# Altium integrated library Linear Technology Operational Amplifiers (LT2000-LT6000).IntLib: 1710 symbols (part 14 of 75)
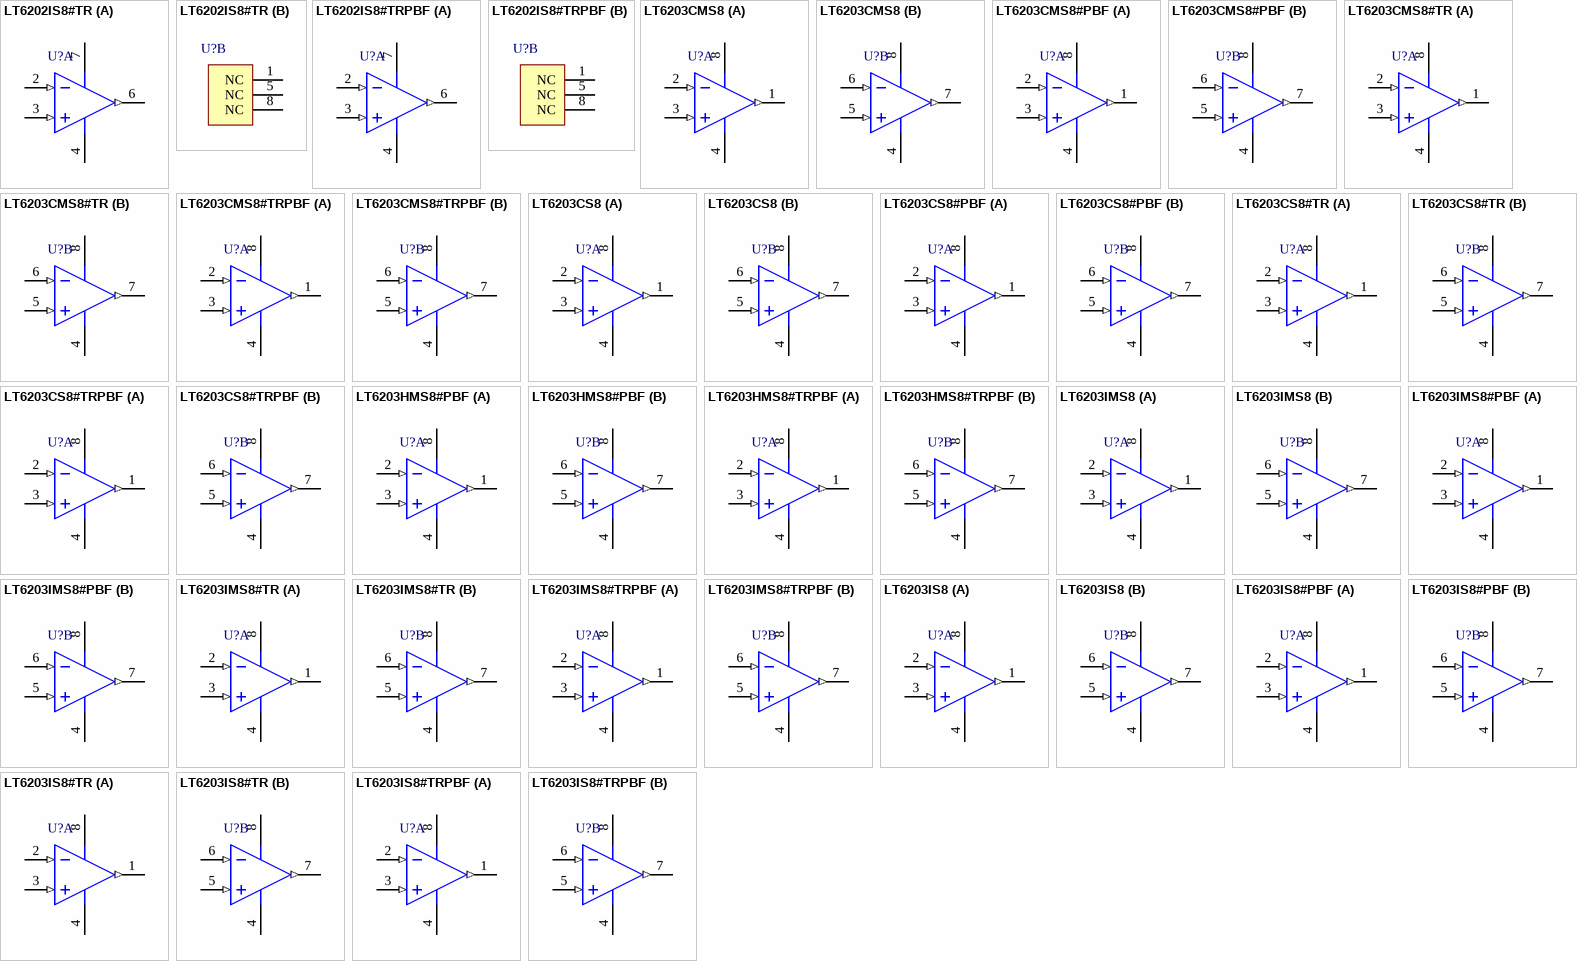
[diagram p93: symbols LT6202IS8#TR to LT6203IS8#TRPBF]

## LT6203IMS8#TRPBF
designator U?
Dual Channel, Low Noise, High Speed Operational Amplifier, RRIO, 100 MHz Typical GBW, 25 V/us Typical SR, 2.5 to 12.6 V, 8-Pin SOP (MS8-8), Industrial, Pb-Free, Reel; Linear Technology Part Number: LT6203; Manufacturer: Linear Technology; PartNumber: LT6203IMS8#TRPBF; Channels (#): 2; GBW (MHz) Typical: 100; Is (mA) Typical: 2.8; SR (V/us) Typical: 25; Vos (mV) Guaranteed: 0.5; Vos (mV) Typical: 0.1; Vs Max (V): 12.6; Vs Min (V): 2.5; DatasheetVersion: Rev. D; PackageVersion: Rev G; PackageReference: LT-MS8-8; PackageDescription: 8-Lead Plastic Small Outline, Body 3.9 x 4.9 mm, Pitch 1.27 mm; Supplier 1: Digi-Key; Supplier Part Number 1: LT6203IMS8#TRPBF-ND; Supplier 2: Newark; Supplier Part Number 2: 57M9235; Packing: Reel; RoHS: Pb-Free; Type: VFB; Mounting Technology: Surface Mount; ComponentLink1Description: Manufacturer URL; ComponentLink1URL: http://www.linear.com/; ComponentLink2Description: Datasheet; ComponentLink2URL: http://cds.linear.com/docs/en/datasheet/620234fd.pdf; ComponentLink3Description: Package Specification; ComponentLink3URL: http://cds.linear.com/docs/en/packaging/05081610_G_SO8.pdf
footprint LT-MS8-8_N (SOP, 8-Leads, Body 3x3mm, Pitch 0.65mm, IPC Medium Density)
footprint LT-MS8-8_L (SOP, 8-Leads, Body 3x3mm, Pitch 0.65mm, IPC High Density)
footprint LT-MS8-8_M (SOP, 8-Leads, Body 3x3mm, Pitch 0.65mm, IPC Low Density)
pins on every part: 4 V- (power), 8 V+ (power)
part A pins: 1 OUT A (out), 2 -IN A (in), 3 +IN A (in)
part B pins: 5 +IN B (in), 6 -IN B (in), 7 OUT B (out)

## LT6203IS8
designator U?
Dual Channel, Low Noise, High Speed Operational Amplifier, RRIO, 100 MHz Typical GBW, 25 V/us Typical SR, 2.5 to 12.6 V, 8-Pin SOIC (S8-8), Industrial; Linear Technology Part Number: LT6203; Manufacturer: Linear Technology; PartNumber: LT6203IS8; Channels (#): 2; GBW (MHz) Typical: 100; Is (mA) Typical: 2.8; SR (V/us) Typical: 25; Vos (mV) Guaranteed: 0.5; Vos (mV) Typical: 0.1; Vs Max (V): 12.6; Vs Min (V): 2.5; DatasheetVersion: Rev. D; PackageVersion: Rev G; PackageReference: LT-S8-8; PackageDescription: 8-Pin Plastic Small Outline, Body 4.9 x 3.9 mm, Pitch 1.27 mm; Supplier 1: Digi-Key; Supplier Part Number 1: LT6203IS8-ND; Supplier 2: Newark; Supplier Part Number 2: 57M9236; Type: VFB; Mounting Technology: Surface Mount; ComponentLink1Description: Manufacturer URL; ComponentLink1URL: http://www.linear.com/; ComponentLink2Description: Datasheet; ComponentLink2URL: http://cds.linear.com/docs/en/datasheet/620234fd.pdf; ComponentLink3Description: Package Specification; ComponentLink3URL: http://cds.linear.com/docs/en/packaging/05081610_G_SO8.pdf
footprint LT-S8-8_N (SOIC, 8-Leads, Body 4.9x3.9mm, Pitch 1.27mm, IPC Medium Density)
footprint LT-S8-8_L (SOIC, 8-Leads, Body 4.9x3.9mm, Pitch 1.27mm, IPC High Density)
footprint LT-S8-8_M (SOIC, 8-Leads, Body 4.9x3.9mm, Pitch 1.27mm, IPC Low Density)
pins on every part: 4 V- (power), 8 V+ (power)
part A pins: 1 OUT A (out), 2 -IN A (in), 3 +IN A (in)
part B pins: 5 +IN B (in), 6 -IN B (in), 7 OUT B (out)

## LT6203IS8#PBF
designator U?
Dual Channel, Low Noise, High Speed Operational Amplifier, RRIO, 100 MHz Typical GBW, 25 V/us Typical SR, 2.5 to 12.6 V, 8-Pin SOIC (S8-8), Industrial, Pb-Free; Linear Technology Part Number: LT6203; Manufacturer: Linear Technology; PartNumber: LT6203IS8#PBF; Channels (#): 2; GBW (MHz) Typical: 100; Is (mA) Typical: 2.8; SR (V/us) Typical: 25; Vos (mV) Guaranteed: 0.5; Vos (mV) Typical: 0.1; Vs Max (V): 12.6; Vs Min (V): 2.5; DatasheetVersion: Rev. D; PackageVersion: Rev G; PackageReference: LT-S8-8; PackageDescription: 8-Pin Plastic Small Outline, Body 4.9 x 3.9 mm, Pitch 1.27 mm; Supplier 1: Digi-Key; Supplier Part Number 1: LT6203IS8#PBF-ND; Supplier 2: Newark; Supplier Part Number 2: 57M9237; RoHS: Pb-Free; Type: VFB; Mounting Technology: Surface Mount; ComponentLink1Description: Manufacturer URL; ComponentLink1URL: http://www.linear.com/; ComponentLink2Description: Datasheet; ComponentLink2URL: http://cds.linear.com/docs/en/datasheet/620234fd.pdf; ComponentLink3Description: Package Specification; ComponentLink3URL: http://cds.linear.com/docs/en/packaging/05081610_G_SO8.pdf
footprint LT-S8-8_N (SOIC, 8-Leads, Body 4.9x3.9mm, Pitch 1.27mm, IPC Medium Density)
footprint LT-S8-8_L (SOIC, 8-Leads, Body 4.9x3.9mm, Pitch 1.27mm, IPC High Density)
footprint LT-S8-8_M (SOIC, 8-Leads, Body 4.9x3.9mm, Pitch 1.27mm, IPC Low Density)
pins on every part: 4 V- (power), 8 V+ (power)
part A pins: 1 OUT A (out), 2 -IN A (in), 3 +IN A (in)
part B pins: 5 +IN B (in), 6 -IN B (in), 7 OUT B (out)

## LT6203IS8#TR
designator U?
Dual Channel, Low Noise, High Speed Operational Amplifier, RRIO, 100 MHz Typical GBW, 25 V/us Typical SR, 2.5 to 12.6 V, 8-Pin SOIC (S8-8), Industrial, Reel; Linear Technology Part Number: LT6203; Manufacturer: Linear Technology; PartNumber: LT6203IS8#TR; Channels (#): 2; GBW (MHz) Typical: 100; Is (mA) Typical: 2.8; SR (V/us) Typical: 25; Vos (mV) Guaranteed: 0.5; Vos (mV) Typical: 0.1; Vs Max (V): 12.6; Vs Min (V): 2.5; DatasheetVersion: Rev. D; PackageVersion: Rev G; PackageReference: LT-S8-8; PackageDescription: 8-Pin Plastic Small Outline, Body 4.9 x 3.9 mm, Pitch 1.27 mm; Supplier 1: Digi-Key; Supplier Part Number 1: LT6203IS8TR-ND; Supplier 2: Newark; Supplier Part Number 2: 57M9238; Packing: Reel; Type: VFB; Mounting Technology: Surface Mount; ComponentLink1Description: Manufacturer URL; ComponentLink1URL: http://www.linear.com/; ComponentLink2Description: Datasheet; ComponentLink2URL: http://cds.linear.com/docs/en/datasheet/620234fd.pdf; ComponentLink3Description: Package Specification; ComponentLink3URL: http://cds.linear.com/docs/en/packaging/05081610_G_SO8.pdf
footprint LT-S8-8_N (SOIC, 8-Leads, Body 4.9x3.9mm, Pitch 1.27mm, IPC Medium Density)
footprint LT-S8-8_L (SOIC, 8-Leads, Body 4.9x3.9mm, Pitch 1.27mm, IPC High Density)
footprint LT-S8-8_M (SOIC, 8-Leads, Body 4.9x3.9mm, Pitch 1.27mm, IPC Low Density)
pins on every part: 4 V- (power), 8 V+ (power)
part A pins: 1 OUT A (out), 2 -IN A (in), 3 +IN A (in)
part B pins: 5 +IN B (in), 6 -IN B (in), 7 OUT B (out)

## LT6203IS8#TRPBF
designator U?
Dual Channel, Low Noise, High Speed Operational Amplifier, RRIO, 100 MHz Typical GBW, 25 V/us Typical SR, 2.5 to 12.6 V, 8-Pin SOIC (S8-8), Industrial, Pb-Free, Reel; Linear Technology Part Number: LT6203; Manufacturer: Linear Technology; PartNumber: LT6203IS8#TRPBF; Channels (#): 2; GBW (MHz) Typical: 100; Is (mA) Typical: 2.8; SR (V/us) Typical: 25; Vos (mV) Guaranteed: 0.5; Vos (mV) Typical: 0.1; Vs Max (V): 12.6; Vs Min (V): 2.5; DatasheetVersion: Rev. D; PackageVersion: Rev G; PackageReference: LT-S8-8; PackageDescription: 8-Pin Plastic Small Outline, Body 4.9 x 3.9 mm, Pitch 1.27 mm; Supplier 1: Digi-Key; Supplier Part Number 1: LT6203IS8#TRPBF-ND; Supplier 2: Newark; Supplier Part Number 2: 57M9239; Packing: Reel; RoHS: Pb-Free; Type: VFB; Mounting Technology: Surface Mount; ComponentLink1Description: Manufacturer URL; ComponentLink1URL: http://www.linear.com/; ComponentLink2Description: Datasheet; ComponentLink2URL: http://cds.linear.com/docs/en/datasheet/620234fd.pdf; ComponentLink3Description: Package Specification; ComponentLink3URL: http://cds.linear.com/docs/en/packaging/05081610_G_SO8.pdf
footprint LT-S8-8_N (SOIC, 8-Leads, Body 4.9x3.9mm, Pitch 1.27mm, IPC Medium Density)
footprint LT-S8-8_L (SOIC, 8-Leads, Body 4.9x3.9mm, Pitch 1.27mm, IPC High Density)
footprint LT-S8-8_M (SOIC, 8-Leads, Body 4.9x3.9mm, Pitch 1.27mm, IPC Low Density)
pins on every part: 4 V- (power), 8 V+ (power)
part A pins: 1 OUT A (out), 2 -IN A (in), 3 +IN A (in)
part B pins: 5 +IN B (in), 6 -IN B (in), 7 OUT B (out)

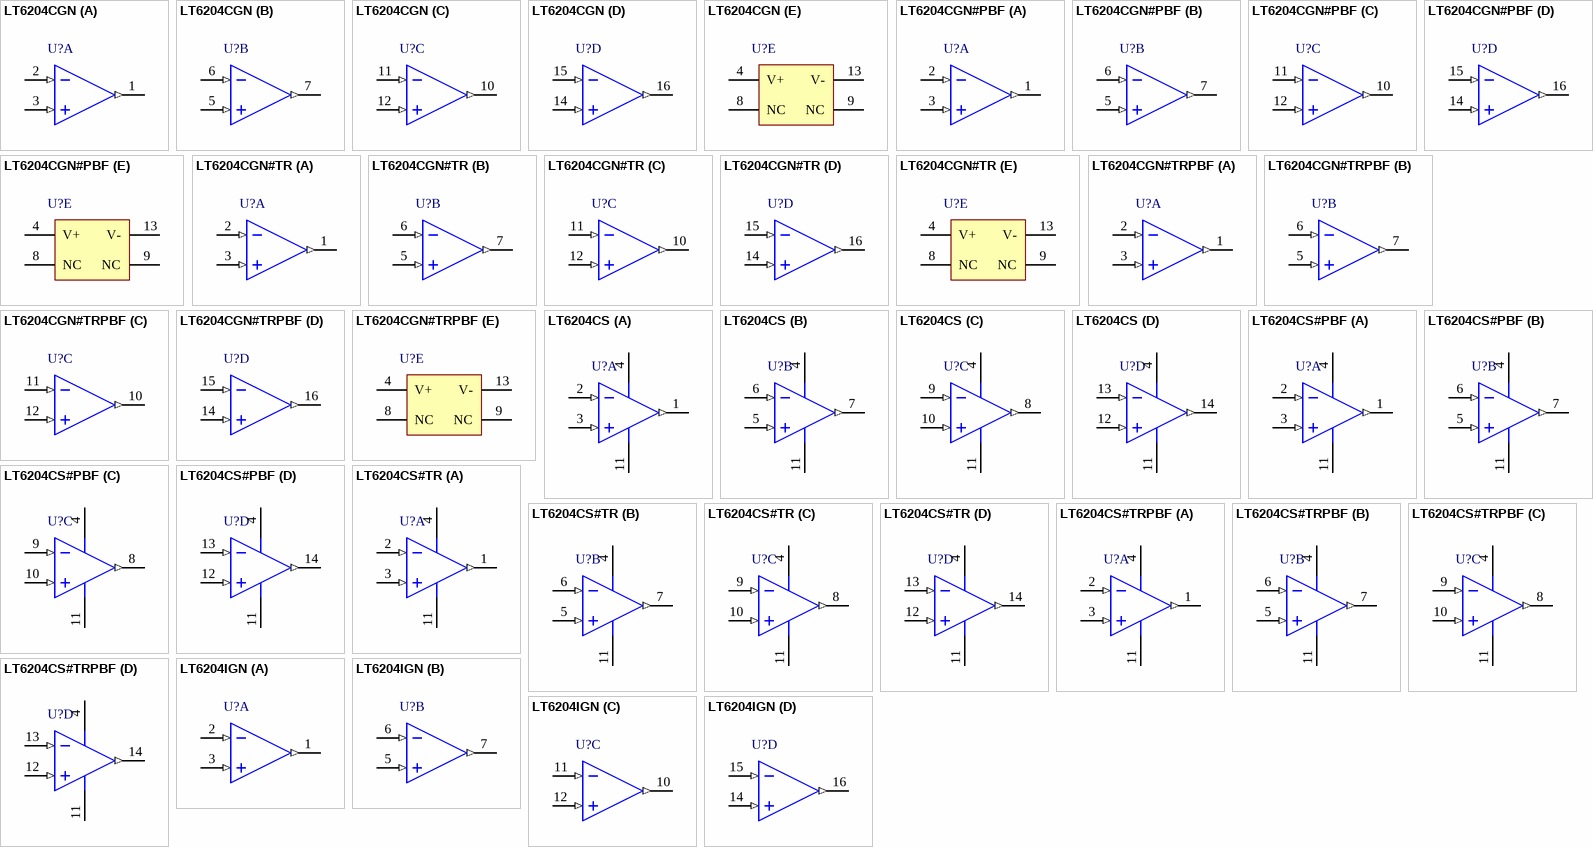
[diagram p20: symbols LT6204CGN to LT6204IGN]

## LT6204CGN
designator U?
Quad Channel, Low Noise, Lower Power Operational Amplifier, RRIO, 100 MHz Typical GBW, 25 V/us Typical SR, 2.5 to 12.6 V, 16-Pin SOP (GN-16), Commercial; Linear Technology Part Number: LT6204; Manufacturer: Linear Technology; PartNumber: LT6204CGN; Channels (#): 4; GBW (MHz) Typical: 100; Is (mA) Typical: 2.8; SR (V/us) Typical: 25; Vos (mV) Guaranteed: 0.5; Vos (mV) Typical: 0.1; Vs Max (V): 12.6; Vs Min (V): 2.5; DatasheetVersion: Rev. D; PackageVersion: Rev B; PackageReference: LT-GN-16; PackageDescription: 16-Lead Plastic SSOP, Body 4.9 x 3.9 mm, Pitch 0.635 mm; Supplier 1: Digi-Key; Supplier Part Number 1: LT6204CGN-ND; Type: VFB; Mounting Technology: Surface Mount; ComponentLink1Description: Manufacturer URL; ComponentLink1URL: http://www.linear.com/; ComponentLink2Description: Datasheet; ComponentLink2URL: http://cds.linear.com/docs/en/datasheet/620234fd.pdf; ComponentLink3Description: Package Specification; ComponentLink3URL: http://cds.linear.com/docs/en/packaging/05081641_B_GN16.pdf
footprint LT-GN-16_N (SOP, 16-Leads, Body 4.9x3.9mm, Pitch 0.635mm, IPC Medium Density)
footprint LT-GN-16_L (SOP, 16-Leads, Body 4.9x3.9mm, Pitch 0.635mm, IPC High Density)
footprint LT-GN-16_M (SOP, 16-Leads, Body 4.9x3.9mm, Pitch 0.635mm, IPC Low Density)
part A pins: 1 OUT A (out), 2 -IN A (in), 3 +IN A (in)
part B pins: 5 +IN B (in), 6 -IN B (in), 7 OUT B (out)
part C pins: 10 OUT C (out), 11 -IN C (in), 12 +IN C (in)
part D pins: 14 +IN D (in), 15 -IN D (in), 16 OUT D (out)
part E pins: 4 V+ (power), 8 NC, 9 NC, 13 V- (power)

## LT6204CGN#PBF
designator U?
Quad Channel, Low Noise, Lower Power Operational Amplifier, RRIO, 100 MHz Typical GBW, 25 V/us Typical SR, 2.5 to 12.6 V, 16-Pin SOP (GN-16), Commercial, Pb-Free; Linear Technology Part Number: LT6204; Manufacturer: Linear Technology; PartNumber: LT6204CGN#PBF; Channels (#): 4; GBW (MHz) Typical: 100; Is (mA) Typical: 2.8; SR (V/us) Typical: 25; Vos (mV) Guaranteed: 0.5; Vos (mV) Typical: 0.1; Vs Max (V): 12.6; Vs Min (V): 2.5; DatasheetVersion: Rev. D; PackageVersion: Rev B; PackageReference: LT-GN-16; PackageDescription: 16-Lead Plastic SSOP, Body 4.9 x 3.9 mm, Pitch 0.635 mm; Supplier 1: Digi-Key; Supplier Part Number 1: LT6204CGN#PBF-ND; RoHS: Pb-Free; Type: VFB; Mounting Technology: Surface Mount; ComponentLink1Description: Manufacturer URL; ComponentLink1URL: http://www.linear.com/; ComponentLink2Description: Datasheet; ComponentLink2URL: http://cds.linear.com/docs/en/datasheet/620234fd.pdf; ComponentLink3Description: Package Specification; ComponentLink3URL: http://cds.linear.com/docs/en/packaging/05081641_B_GN16.pdf
footprint LT-GN-16_N (SOP, 16-Leads, Body 4.9x3.9mm, Pitch 0.635mm, IPC Medium Density)
footprint LT-GN-16_L (SOP, 16-Leads, Body 4.9x3.9mm, Pitch 0.635mm, IPC High Density)
footprint LT-GN-16_M (SOP, 16-Leads, Body 4.9x3.9mm, Pitch 0.635mm, IPC Low Density)
part A pins: 1 OUT A (out), 2 -IN A (in), 3 +IN A (in)
part B pins: 5 +IN B (in), 6 -IN B (in), 7 OUT B (out)
part C pins: 10 OUT C (out), 11 -IN C (in), 12 +IN C (in)
part D pins: 14 +IN D (in), 15 -IN D (in), 16 OUT D (out)
part E pins: 4 V+ (power), 8 NC, 9 NC, 13 V- (power)

## LT6204CGN#TR
designator U?
Quad Channel, Low Noise, Lower Power Operational Amplifier, RRIO, 100 MHz Typical GBW, 25 V/us Typical SR, 2.5 to 12.6 V, 16-Pin SOP (GN-16), Commercial, Reel; Linear Technology Part Number: LT6204; Manufacturer: Linear Technology; PartNumber: LT6204CGN#TR; Channels (#): 4; GBW (MHz) Typical: 100; Is (mA) Typical: 2.8; SR (V/us) Typical: 25; Vos (mV) Guaranteed: 0.5; Vos (mV) Typical: 0.1; Vs Max (V): 12.6; Vs Min (V): 2.5; DatasheetVersion: Rev. D; PackageVersion: Rev B; PackageReference: LT-GN-16; PackageDescription: 16-Lead Plastic SSOP, Body 4.9 x 3.9 mm, Pitch 0.635 mm; Supplier 1: Digi-Key; Supplier Part Number 1: LT6204CGN#TR-ND; Packing: Reel; Type: VFB; Mounting Technology: Surface Mount; ComponentLink1Description: Manufacturer URL; ComponentLink1URL: http://www.linear.com/; ComponentLink2Description: Datasheet; ComponentLink2URL: http://cds.linear.com/docs/en/datasheet/620234fd.pdf; ComponentLink3Description: Package Specification; ComponentLink3URL: http://cds.linear.com/docs/en/packaging/05081641_B_GN16.pdf
footprint LT-GN-16_N (SOP, 16-Leads, Body 4.9x3.9mm, Pitch 0.635mm, IPC Medium Density)
footprint LT-GN-16_L (SOP, 16-Leads, Body 4.9x3.9mm, Pitch 0.635mm, IPC High Density)
footprint LT-GN-16_M (SOP, 16-Leads, Body 4.9x3.9mm, Pitch 0.635mm, IPC Low Density)
part A pins: 1 OUT A (out), 2 -IN A (in), 3 +IN A (in)
part B pins: 5 +IN B (in), 6 -IN B (in), 7 OUT B (out)
part C pins: 10 OUT C (out), 11 -IN C (in), 12 +IN C (in)
part D pins: 14 +IN D (in), 15 -IN D (in), 16 OUT D (out)
part E pins: 4 V+ (power), 8 NC, 9 NC, 13 V- (power)

## LT6204CGN#TRPBF
designator U?
Quad Channel, Low Noise, Lower Power Operational Amplifier, RRIO, 100 MHz Typical GBW, 25 V/us Typical SR, 2.5 to 12.6 V, 16-Pin SOP (GN-16), Commercial, Pb-Free, Reel; Linear Technology Part Number: LT6204; Manufacturer: Linear Technology; PartNumber: LT6204CGN#TRPBF; Channels (#): 4; GBW (MHz) Typical: 100; Is (mA) Typical: 2.8; SR (V/us) Typical: 25; Vos (mV) Guaranteed: 0.5; Vos (mV) Typical: 0.1; Vs Max (V): 12.6; Vs Min (V): 2.5; DatasheetVersion: Rev. D; PackageVersion: Rev B; PackageReference: LT-GN-16; PackageDescription: 16-Lead Plastic SSOP, Body 4.9 x 3.9 mm, Pitch 0.635 mm; Supplier 1: Digi-Key; Supplier Part Number 1: LT6204CGN#TRPBF-ND; Packing: Reel; RoHS: Pb-Free; Type: VFB; Mounting Technology: Surface Mount; ComponentLink1Description: Manufacturer URL; ComponentLink1URL: http://www.linear.com/; ComponentLink2Description: Datasheet; ComponentLink2URL: http://cds.linear.com/docs/en/datasheet/620234fd.pdf; ComponentLink3Description: Package Specification; ComponentLink3URL: http://cds.linear.com/docs/en/packaging/05081641_B_GN16.pdf
footprint LT-GN-16_N (SOP, 16-Leads, Body 4.9x3.9mm, Pitch 0.635mm, IPC Medium Density)
footprint LT-GN-16_L (SOP, 16-Leads, Body 4.9x3.9mm, Pitch 0.635mm, IPC High Density)
footprint LT-GN-16_M (SOP, 16-Leads, Body 4.9x3.9mm, Pitch 0.635mm, IPC Low Density)
part A pins: 1 OUT A (out), 2 -IN A (in), 3 +IN A (in)
part B pins: 5 +IN B (in), 6 -IN B (in), 7 OUT B (out)
part C pins: 10 OUT C (out), 11 -IN C (in), 12 +IN C (in)
part D pins: 14 +IN D (in), 15 -IN D (in), 16 OUT D (out)
part E pins: 4 V+ (power), 8 NC, 9 NC, 13 V- (power)

## LT6204CS
designator U?
Quad Channel, Low Noise, Lower Power Operational Amplifier, RRIO, 100 MHz Typical GBW, 25 V/us Typical SR, 2.5 to 12.6 V, 14-Pin SOIC (S-14), Commercial; Linear Technology Part Number: LT6204; Manufacturer: Linear Technology; PartNumber: LT6204CS; Channels (#): 4; GBW (MHz) Typical: 100; Is (mA) Typical: 2.8; SR (V/us) Typical: 25; Vos (mV) Guaranteed: 0.5; Vos (mV) Typical: 0.1; Vs Max (V): 12.6; Vs Min (V): 2.5; DatasheetVersion: Rev. D; PackageVersion: Rev G; PackageReference: LT-S-14; PackageDescription: 14-Lead Plastic Small Outline, Body 8.65 x 3.90 mm, Pitch 1.27 mm; Supplier 1: Digi-Key; Supplier Part Number 1: LT6204CS-ND; Type: VFB; Mounting Technology: Surface Mount; ComponentLink1Description: Manufacturer URL; ComponentLink1URL: http://www.linear.com/; ComponentLink2Description: Datasheet; ComponentLink2URL: http://cds.linear.com/docs/en/datasheet/620234fd.pdf; ComponentLink3Description: Package Specification; ComponentLink3URL: http://cds.linear.com/docs/en/packaging/05081610_G_S14.pdf
footprint LT-S-14_N (SOIC, 14-Leads, Body 8.65x3.90mm, Pitch 1.27mm, IPC Medium Density)
footprint LT-S-14_L (SOIC, 14-Leads, Body 8.65x3.90mm, Pitch 1.27mm, IPC High Density)
footprint LT-S-14_M (SOIC, 14-Leads, Body 8.65x3.90mm, Pitch 1.27mm, IPC Low Density)
pins on every part: 4 V+ (power), 11 V- (power)
part A pins: 1 OUT A (out), 2 -IN A (in), 3 +IN A (in)
part B pins: 5 +IN B (in), 6 -IN B (in), 7 OUT B (out)
part C pins: 8 OUT C (out), 9 -IN C (in), 10 +IN C (in)
part D pins: 12 +IN D (in), 13 -IN D (in), 14 OUT D (out)

## LT6204CS#PBF
designator U?
Quad Channel, Low Noise, Lower Power Operational Amplifier, RRIO, 100 MHz Typical GBW, 25 V/us Typical SR, 2.5 to 12.6 V, 14-Pin SOIC (S-14), Commercial, Pb-Free; Linear Technology Part Number: LT6204; Manufacturer: Linear Technology; PartNumber: LT6204CS#PBF; Channels (#): 4; GBW (MHz) Typical: 100; Is (mA) Typical: 2.8; SR (V/us) Typical: 25; Vos (mV) Guaranteed: 0.5; Vos (mV) Typical: 0.1; Vs Max (V): 12.6; Vs Min (V): 2.5; DatasheetVersion: Rev. D; PackageVersion: Rev G; PackageReference: LT-S-14; PackageDescription: 14-Lead Plastic Small Outline, Body 8.65 x 3.90 mm, Pitch 1.27 mm; Supplier 1: Digi-Key; Supplier Part Number 1: LT6204CS#PBF-ND; Supplier 2: Newark; Supplier Part Number 2: 57M9245; RoHS: Pb-Free; Type: VFB; Mounting Technology: Surface Mount; ComponentLink1Description: Manufacturer URL; ComponentLink1URL: http://www.linear.com/; ComponentLink2Description: Datasheet; ComponentLink2URL: http://cds.linear.com/docs/en/datasheet/620234fd.pdf; ComponentLink3Description: Package Specification; ComponentLink3URL: http://cds.linear.com/docs/en/packaging/05081610_G_S14.pdf
footprint LT-S-14_N (SOIC, 14-Leads, Body 8.65x3.90mm, Pitch 1.27mm, IPC Medium Density)
footprint LT-S-14_L (SOIC, 14-Leads, Body 8.65x3.90mm, Pitch 1.27mm, IPC High Density)
footprint LT-S-14_M (SOIC, 14-Leads, Body 8.65x3.90mm, Pitch 1.27mm, IPC Low Density)
pins on every part: 4 V+ (power), 11 V- (power)
part A pins: 1 OUT A (out), 2 -IN A (in), 3 +IN A (in)
part B pins: 5 +IN B (in), 6 -IN B (in), 7 OUT B (out)
part C pins: 8 OUT C (out), 9 -IN C (in), 10 +IN C (in)
part D pins: 12 +IN D (in), 13 -IN D (in), 14 OUT D (out)

## LT6204CS#TR
designator U?
Quad Channel, Low Noise, Lower Power Operational Amplifier, RRIO, 100 MHz Typical GBW, 25 V/us Typical SR, 2.5 to 12.6 V, 14-Pin SOIC (S-14), Commercial, Reel; Linear Technology Part Number: LT6204; Manufacturer: Linear Technology; PartNumber: LT6204CS#TR; Channels (#): 4; GBW (MHz) Typical: 100; Is (mA) Typical: 2.8; SR (V/us) Typical: 25; Vos (mV) Guaranteed: 0.5; Vos (mV) Typical: 0.1; Vs Max (V): 12.6; Vs Min (V): 2.5; DatasheetVersion: Rev. D; PackageVersion: Rev G; PackageReference: LT-S-14; PackageDescription: 14-Lead Plastic Small Outline, Body 8.65 x 3.90 mm, Pitch 1.27 mm; Supplier 1: Digi-Key; Supplier Part Number 1: LT6204CS#TR-ND; Packing: Reel; Type: VFB; Mounting Technology: Surface Mount; ComponentLink1Description: Manufacturer URL; ComponentLink1URL: http://www.linear.com/; ComponentLink2Description: Datasheet; ComponentLink2URL: http://cds.linear.com/docs/en/datasheet/620234fd.pdf; ComponentLink3Description: Package Specification; ComponentLink3URL: http://cds.linear.com/docs/en/packaging/05081610_G_S14.pdf
footprint LT-S-14_N (SOIC, 14-Leads, Body 8.65x3.90mm, Pitch 1.27mm, IPC Medium Density)
footprint LT-S-14_L (SOIC, 14-Leads, Body 8.65x3.90mm, Pitch 1.27mm, IPC High Density)
footprint LT-S-14_M (SOIC, 14-Leads, Body 8.65x3.90mm, Pitch 1.27mm, IPC Low Density)
pins on every part: 4 V+ (power), 11 V- (power)
part A pins: 1 OUT A (out), 2 -IN A (in), 3 +IN A (in)
part B pins: 5 +IN B (in), 6 -IN B (in), 7 OUT B (out)
part C pins: 8 OUT C (out), 9 -IN C (in), 10 +IN C (in)
part D pins: 12 +IN D (in), 13 -IN D (in), 14 OUT D (out)

## LT6204CS#TRPBF
designator U?
Quad Channel, Low Noise, Lower Power Operational Amplifier, RRIO, 100 MHz Typical GBW, 25 V/us Typical SR, 2.5 to 12.6 V, 14-Pin SOIC (S-14), Commercial, Pb-Free, Reel; Linear Technology Part Number: LT6204; Manufacturer: Linear Technology; PartNumber: LT6204CS#TRPBF; Channels (#): 4; GBW (MHz) Typical: 100; Is (mA) Typical: 2.8; SR (V/us) Typical: 25; Vos (mV) Guaranteed: 0.5; Vos (mV) Typical: 0.1; Vs Max (V): 12.6; Vs Min (V): 2.5; DatasheetVersion: Rev. D; PackageVersion: Rev G; PackageReference: LT-S-14; PackageDescription: 14-Lead Plastic Small Outline, Body 8.65 x 3.90 mm, Pitch 1.27 mm; Supplier 1: Digi-Key; Supplier Part Number 1: LT6204CS#TRPBF-ND; Supplier 2: Newark; Supplier Part Number 2: 57M9247; Packing: Reel; RoHS: Pb-Free; Type: VFB; Mounting Technology: Surface Mount; ComponentLink1Description: Manufacturer URL; ComponentLink1URL: http://www.linear.com/; ComponentLink2Description: Datasheet; ComponentLink2URL: http://cds.linear.com/docs/en/datasheet/620234fd.pdf; ComponentLink3Description: Package Specification; ComponentLink3URL: http://cds.linear.com/docs/en/packaging/05081610_G_S14.pdf
footprint LT-S-14_N (SOIC, 14-Leads, Body 8.65x3.90mm, Pitch 1.27mm, IPC Medium Density)
footprint LT-S-14_L (SOIC, 14-Leads, Body 8.65x3.90mm, Pitch 1.27mm, IPC High Density)
footprint LT-S-14_M (SOIC, 14-Leads, Body 8.65x3.90mm, Pitch 1.27mm, IPC Low Density)
pins on every part: 4 V+ (power), 11 V- (power)
part A pins: 1 OUT A (out), 2 -IN A (in), 3 +IN A (in)
part B pins: 5 +IN B (in), 6 -IN B (in), 7 OUT B (out)
part C pins: 8 OUT C (out), 9 -IN C (in), 10 +IN C (in)
part D pins: 12 +IN D (in), 13 -IN D (in), 14 OUT D (out)

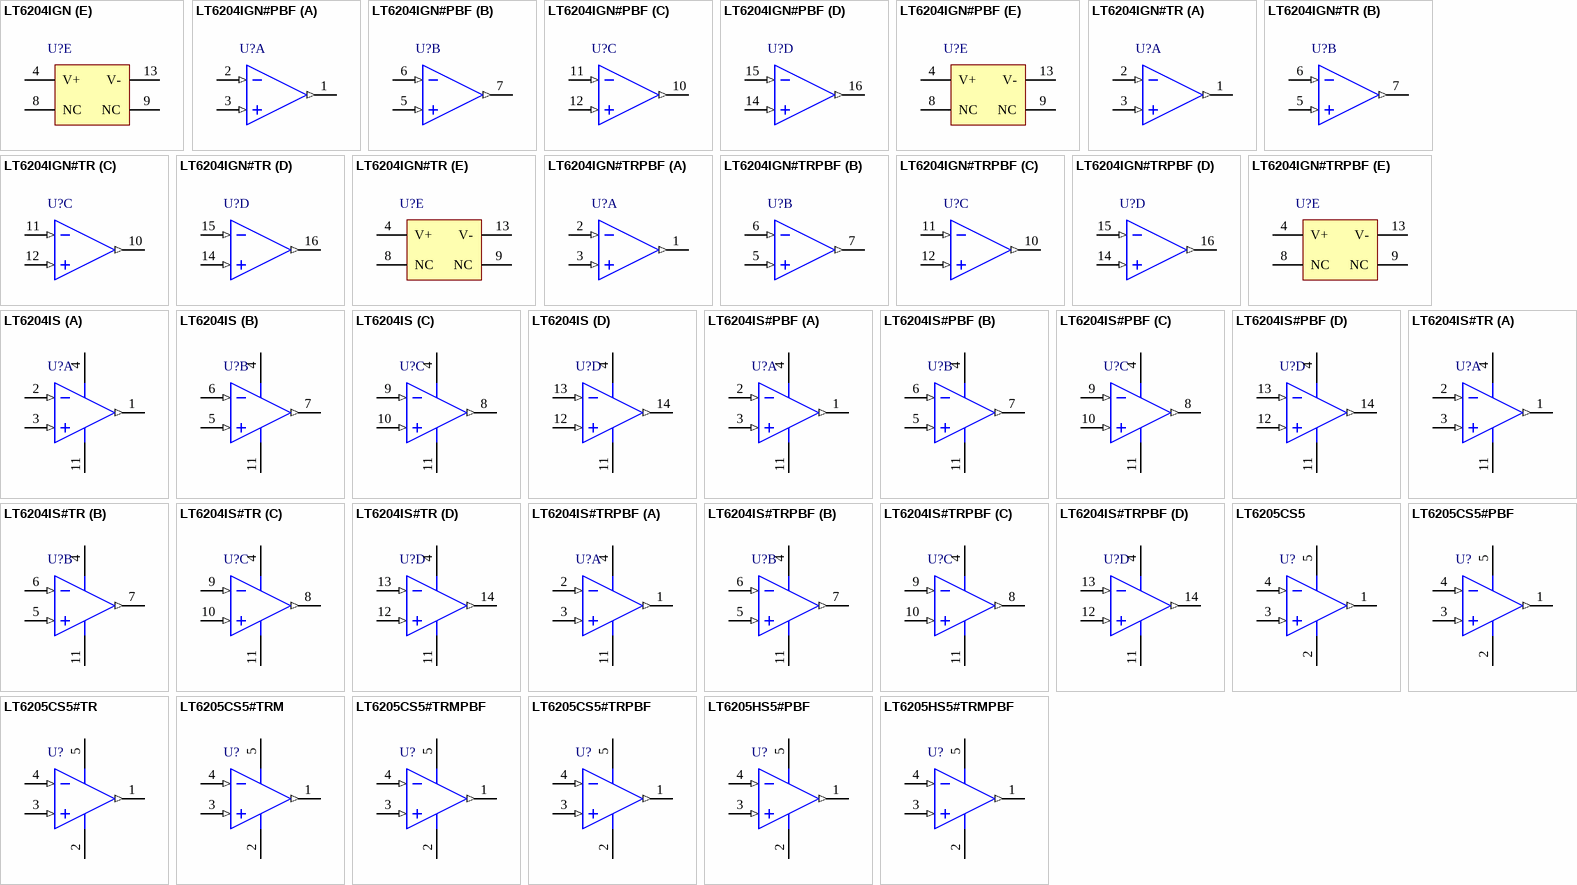
[diagram p21: symbols LT6204IGN to LT6205HS5#TRMPBF]

## LT6204IGN
designator U?
Quad Channel, Low Noise, Lower Power Operational Amplifier, RRIO, 100 MHz Typical GBW, 25 V/us Typical SR, 2.5 to 12.6 V, 16-Pin SOP (GN-16), Industrial; Linear Technology Part Number: LT6204; Manufacturer: Linear Technology; PartNumber: LT6204IGN; Channels (#): 4; GBW (MHz) Typical: 100; Is (mA) Typical: 2.8; SR (V/us) Typical: 25; Vos (mV) Guaranteed: 0.5; Vos (mV) Typical: 0.1; Vs Max (V): 12.6; Vs Min (V): 2.5; DatasheetVersion: Rev. D; PackageVersion: Rev B; PackageReference: LT-GN-16; PackageDescription: 16-Lead Plastic SSOP, Body 4.9 x 3.9 mm, Pitch 0.635 mm; Supplier 1: Digi-Key; Supplier Part Number 1: LT6204IGN-ND; Type: VFB; Mounting Technology: Surface Mount; ComponentLink1Description: Manufacturer URL; ComponentLink1URL: http://www.linear.com/; ComponentLink2Description: Datasheet; ComponentLink2URL: http://cds.linear.com/docs/en/datasheet/620234fd.pdf; ComponentLink3Description: Package Specification; ComponentLink3URL: http://cds.linear.com/docs/en/packaging/05081641_B_GN16.pdf
footprint LT-GN-16_N (SOP, 16-Leads, Body 4.9x3.9mm, Pitch 0.635mm, IPC Medium Density)
footprint LT-GN-16_L (SOP, 16-Leads, Body 4.9x3.9mm, Pitch 0.635mm, IPC High Density)
footprint LT-GN-16_M (SOP, 16-Leads, Body 4.9x3.9mm, Pitch 0.635mm, IPC Low Density)
part A pins: 1 OUT A (out), 2 -IN A (in), 3 +IN A (in)
part B pins: 5 +IN B (in), 6 -IN B (in), 7 OUT B (out)
part C pins: 10 OUT C (out), 11 -IN C (in), 12 +IN C (in)
part D pins: 14 +IN D (in), 15 -IN D (in), 16 OUT D (out)
part E pins: 4 V+ (power), 8 NC, 9 NC, 13 V- (power)

## LT6204IGN#PBF
designator U?
Quad Channel, Low Noise, Lower Power Operational Amplifier, RRIO, 100 MHz Typical GBW, 25 V/us Typical SR, 2.5 to 12.6 V, 16-Pin SOP (GN-16), Industrial, Pb-Free; Linear Technology Part Number: LT6204; Manufacturer: Linear Technology; PartNumber: LT6204IGN#PBF; Channels (#): 4; GBW (MHz) Typical: 100; Is (mA) Typical: 2.8; SR (V/us) Typical: 25; Vos (mV) Guaranteed: 0.5; Vos (mV) Typical: 0.1; Vs Max (V): 12.6; Vs Min (V): 2.5; DatasheetVersion: Rev. D; PackageVersion: Rev B; PackageReference: LT-GN-16; PackageDescription: 16-Lead Plastic SSOP, Body 4.9 x 3.9 mm, Pitch 0.635 mm; Supplier 1: Digi-Key; Supplier Part Number 1: LT6204IGN#PBF-ND; RoHS: Pb-Free; Type: VFB; Mounting Technology: Surface Mount; ComponentLink1Description: Manufacturer URL; ComponentLink1URL: http://www.linear.com/; ComponentLink2Description: Datasheet; ComponentLink2URL: http://cds.linear.com/docs/en/datasheet/620234fd.pdf; ComponentLink3Description: Package Specification; ComponentLink3URL: http://cds.linear.com/docs/en/packaging/05081641_B_GN16.pdf
footprint LT-GN-16_N (SOP, 16-Leads, Body 4.9x3.9mm, Pitch 0.635mm, IPC Medium Density)
footprint LT-GN-16_L (SOP, 16-Leads, Body 4.9x3.9mm, Pitch 0.635mm, IPC High Density)
footprint LT-GN-16_M (SOP, 16-Leads, Body 4.9x3.9mm, Pitch 0.635mm, IPC Low Density)
part A pins: 1 OUT A (out), 2 -IN A (in), 3 +IN A (in)
part B pins: 5 +IN B (in), 6 -IN B (in), 7 OUT B (out)
part C pins: 10 OUT C (out), 11 -IN C (in), 12 +IN C (in)
part D pins: 14 +IN D (in), 15 -IN D (in), 16 OUT D (out)
part E pins: 4 V+ (power), 8 NC, 9 NC, 13 V- (power)

## LT6204IGN#TR
designator U?
Quad Channel, Low Noise, Lower Power Operational Amplifier, RRIO, 100 MHz Typical GBW, 25 V/us Typical SR, 2.5 to 12.6 V, 16-Pin SOP (GN-16), Industrial, Reel; Linear Technology Part Number: LT6204; Manufacturer: Linear Technology; PartNumber: LT6204IGN#TR; Channels (#): 4; GBW (MHz) Typical: 100; Is (mA) Typical: 2.8; SR (V/us) Typical: 25; Vos (mV) Guaranteed: 0.5; Vos (mV) Typical: 0.1; Vs Max (V): 12.6; Vs Min (V): 2.5; DatasheetVersion: Rev. D; PackageVersion: Rev B; PackageReference: LT-GN-16; PackageDescription: 16-Lead Plastic SSOP, Body 4.9 x 3.9 mm, Pitch 0.635 mm; Supplier 1: Digi-Key; Supplier Part Number 1: LT6204IGN#TR-ND; Packing: Reel; Type: VFB; Mounting Technology: Surface Mount; ComponentLink1Description: Manufacturer URL; ComponentLink1URL: http://www.linear.com/; ComponentLink2Description: Datasheet; ComponentLink2URL: http://cds.linear.com/docs/en/datasheet/620234fd.pdf; ComponentLink3Description: Package Specification; ComponentLink3URL: http://cds.linear.com/docs/en/packaging/05081641_B_GN16.pdf
footprint LT-GN-16_N (SOP, 16-Leads, Body 4.9x3.9mm, Pitch 0.635mm, IPC Medium Density)
footprint LT-GN-16_L (SOP, 16-Leads, Body 4.9x3.9mm, Pitch 0.635mm, IPC High Density)
footprint LT-GN-16_M (SOP, 16-Leads, Body 4.9x3.9mm, Pitch 0.635mm, IPC Low Density)
part A pins: 1 OUT A (out), 2 -IN A (in), 3 +IN A (in)
part B pins: 5 +IN B (in), 6 -IN B (in), 7 OUT B (out)
part C pins: 10 OUT C (out), 11 -IN C (in), 12 +IN C (in)
part D pins: 14 +IN D (in), 15 -IN D (in), 16 OUT D (out)
part E pins: 4 V+ (power), 8 NC, 9 NC, 13 V- (power)

## LT6204IGN#TRPBF
designator U?
Quad Channel, Low Noise, Lower Power Operational Amplifier, RRIO, 100 MHz Typical GBW, 25 V/us Typical SR, 2.5 to 12.6 V, 16-Pin SOP (GN-16), Industrial, Pb-Free, Reel; Linear Technology Part Number: LT6204; Manufacturer: Linear Technology; PartNumber: LT6204IGN#TRPBF; Channels (#): 4; GBW (MHz) Typical: 100; Is (mA) Typical: 2.8; SR (V/us) Typical: 25; Vos (mV) Guaranteed: 0.5; Vos (mV) Typical: 0.1; Vs Max (V): 12.6; Vs Min (V): 2.5; DatasheetVersion: Rev. D; PackageVersion: Rev B; PackageReference: LT-GN-16; PackageDescription: 16-Lead Plastic SSOP, Body 4.9 x 3.9 mm, Pitch 0.635 mm; Supplier 1: Digi-Key; Supplier Part Number 1: LT6204IGN#TRPBF-ND; Packing: Reel; RoHS: Pb-Free; Type: VFB; Mounting Technology: Surface Mount; ComponentLink1Description: Manufacturer URL; ComponentLink1URL: http://www.linear.com/; ComponentLink2Description: Datasheet; ComponentLink2URL: http://cds.linear.com/docs/en/datasheet/620234fd.pdf; ComponentLink3Description: Package Specification; ComponentLink3URL: http://cds.linear.com/docs/en/packaging/05081641_B_GN16.pdf
footprint LT-GN-16_N (SOP, 16-Leads, Body 4.9x3.9mm, Pitch 0.635mm, IPC Medium Density)
footprint LT-GN-16_L (SOP, 16-Leads, Body 4.9x3.9mm, Pitch 0.635mm, IPC High Density)
footprint LT-GN-16_M (SOP, 16-Leads, Body 4.9x3.9mm, Pitch 0.635mm, IPC Low Density)
part A pins: 1 OUT A (out), 2 -IN A (in), 3 +IN A (in)
part B pins: 5 +IN B (in), 6 -IN B (in), 7 OUT B (out)
part C pins: 10 OUT C (out), 11 -IN C (in), 12 +IN C (in)
part D pins: 14 +IN D (in), 15 -IN D (in), 16 OUT D (out)
part E pins: 4 V+ (power), 8 NC, 9 NC, 13 V- (power)

## LT6204IS
designator U?
Quad Channel, Low Noise, Lower Power Operational Amplifier, RRIO, 100 MHz Typical GBW, 25 V/us Typical SR, 2.5 to 12.6 V, 14-Pin SOIC (S-14), Industrial; Linear Technology Part Number: LT6204; Manufacturer: Linear Technology; PartNumber: LT6204IS; Channels (#): 4; GBW (MHz) Typical: 100; Is (mA) Typical: 2.8; SR (V/us) Typical: 25; Vos (mV) Guaranteed: 0.5; Vos (mV) Typical: 0.1; Vs Max (V): 12.6; Vs Min (V): 2.5; DatasheetVersion: Rev. D; PackageVersion: Rev G; PackageReference: LT-S-14; PackageDescription: 14-Lead Plastic Small Outline, Body 8.65 x 3.90 mm, Pitch 1.27 mm; Supplier 1: Digi-Key; Supplier Part Number 1: LT6204IS-ND; Type: VFB; Mounting Technology: Surface Mount; ComponentLink1Description: Manufacturer URL; ComponentLink1URL: http://www.linear.com/; ComponentLink2Description: Datasheet; ComponentLink2URL: http://cds.linear.com/docs/en/datasheet/620234fd.pdf; ComponentLink3Description: Package Specification; ComponentLink3URL: http://cds.linear.com/docs/en/packaging/05081610_G_S14.pdf
footprint LT-S-14_N (SOIC, 14-Leads, Body 8.65x3.90mm, Pitch 1.27mm, IPC Medium Density)
footprint LT-S-14_L (SOIC, 14-Leads, Body 8.65x3.90mm, Pitch 1.27mm, IPC High Density)
footprint LT-S-14_M (SOIC, 14-Leads, Body 8.65x3.90mm, Pitch 1.27mm, IPC Low Density)
pins on every part: 4 V+ (power), 11 V- (power)
part A pins: 1 OUT A (out), 2 -IN A (in), 3 +IN A (in)
part B pins: 5 +IN B (in), 6 -IN B (in), 7 OUT B (out)
part C pins: 8 OUT C (out), 9 -IN C (in), 10 +IN C (in)
part D pins: 12 +IN D (in), 13 -IN D (in), 14 OUT D (out)

## LT6204IS#PBF
designator U?
Quad Channel, Low Noise, Lower Power Operational Amplifier, RRIO, 100 MHz Typical GBW, 25 V/us Typical SR, 2.5 to 12.6 V, 14-Pin SOIC (S-14), Industrial, Pb-Free; Linear Technology Part Number: LT6204; Manufacturer: Linear Technology; PartNumber: LT6204IS#PBF; Channels (#): 4; GBW (MHz) Typical: 100; Is (mA) Typical: 2.8; SR (V/us) Typical: 25; Vos (mV) Guaranteed: 0.5; Vos (mV) Typical: 0.1; Vs Max (V): 12.6; Vs Min (V): 2.5; DatasheetVersion: Rev. D; PackageVersion: Rev G; PackageReference: LT-S-14; PackageDescription: 14-Lead Plastic Small Outline, Body 8.65 x 3.90 mm, Pitch 1.27 mm; Supplier 1: Digi-Key; Supplier Part Number 1: LT6204IS#PBF-ND; Supplier 2: Newark; Supplier Part Number 2: 57M9253; RoHS: Pb-Free; Type: VFB; Mounting Technology: Surface Mount; ComponentLink1Description: Manufacturer URL; ComponentLink1URL: http://www.linear.com/; ComponentLink2Description: Datasheet; ComponentLink2URL: http://cds.linear.com/docs/en/datasheet/620234fd.pdf; ComponentLink3Description: Package Specification; ComponentLink3URL: http://cds.linear.com/docs/en/packaging/05081610_G_S14.pdf
footprint LT-S-14_N (SOIC, 14-Leads, Body 8.65x3.90mm, Pitch 1.27mm, IPC Medium Density)
footprint LT-S-14_L (SOIC, 14-Leads, Body 8.65x3.90mm, Pitch 1.27mm, IPC High Density)
footprint LT-S-14_M (SOIC, 14-Leads, Body 8.65x3.90mm, Pitch 1.27mm, IPC Low Density)
pins on every part: 4 V+ (power), 11 V- (power)
part A pins: 1 OUT A (out), 2 -IN A (in), 3 +IN A (in)
part B pins: 5 +IN B (in), 6 -IN B (in), 7 OUT B (out)
part C pins: 8 OUT C (out), 9 -IN C (in), 10 +IN C (in)
part D pins: 12 +IN D (in), 13 -IN D (in), 14 OUT D (out)

## LT6204IS#TR
designator U?
Quad Channel, Low Noise, Lower Power Operational Amplifier, RRIO, 100 MHz Typical GBW, 25 V/us Typical SR, 2.5 to 12.6 V, 14-Pin SOIC (S-14), Industrial, Reel; Linear Technology Part Number: LT6204; Manufacturer: Linear Technology; PartNumber: LT6204IS#TR; Channels (#): 4; GBW (MHz) Typical: 100; Is (mA) Typical: 2.8; SR (V/us) Typical: 25; Vos (mV) Guaranteed: 0.5; Vos (mV) Typical: 0.1; Vs Max (V): 12.6; Vs Min (V): 2.5; DatasheetVersion: Rev. D; PackageVersion: Rev G; PackageReference: LT-S-14; PackageDescription: 14-Lead Plastic Small Outline, Body 8.65 x 3.90 mm, Pitch 1.27 mm; Supplier 1: Digi-Key; Supplier Part Number 1: LT6204IS#TR-ND; Packing: Reel; Type: VFB; Mounting Technology: Surface Mount; ComponentLink1Description: Manufacturer URL; ComponentLink1URL: http://www.linear.com/; ComponentLink2Description: Datasheet; ComponentLink2URL: http://cds.linear.com/docs/en/datasheet/620234fd.pdf; ComponentLink3Description: Package Specification; ComponentLink3URL: http://cds.linear.com/docs/en/packaging/05081610_G_S14.pdf
footprint LT-S-14_N (SOIC, 14-Leads, Body 8.65x3.90mm, Pitch 1.27mm, IPC Medium Density)
footprint LT-S-14_L (SOIC, 14-Leads, Body 8.65x3.90mm, Pitch 1.27mm, IPC High Density)
footprint LT-S-14_M (SOIC, 14-Leads, Body 8.65x3.90mm, Pitch 1.27mm, IPC Low Density)
pins on every part: 4 V+ (power), 11 V- (power)
part A pins: 1 OUT A (out), 2 -IN A (in), 3 +IN A (in)
part B pins: 5 +IN B (in), 6 -IN B (in), 7 OUT B (out)
part C pins: 8 OUT C (out), 9 -IN C (in), 10 +IN C (in)
part D pins: 12 +IN D (in), 13 -IN D (in), 14 OUT D (out)

## LT6204IS#TRPBF
designator U?
Quad Channel, Low Noise, Lower Power Operational Amplifier, RRIO, 100 MHz Typical GBW, 25 V/us Typical SR, 2.5 to 12.6 V, 14-Pin SOIC (S-14), Industrial, Pb-Free, Reel; Linear Technology Part Number: LT6204; Manufacturer: Linear Technology; PartNumber: LT6204IS#TRPBF; Channels (#): 4; GBW (MHz) Typical: 100; Is (mA) Typical: 2.8; SR (V/us) Typical: 25; Vos (mV) Guaranteed: 0.5; Vos (mV) Typical: 0.1; Vs Max (V): 12.6; Vs Min (V): 2.5; DatasheetVersion: Rev. D; PackageVersion: Rev G; PackageReference: LT-S-14; PackageDescription: 14-Lead Plastic Small Outline, Body 8.65 x 3.90 mm, Pitch 1.27 mm; Supplier 1: Digi-Key; Supplier Part Number 1: LT6204IS#TRPBF-ND; Supplier 2: Newark; Supplier Part Number 2: 57M9255; Packing: Reel; RoHS: Pb-Free; Type: VFB; Mounting Technology: Surface Mount; ComponentLink1Description: Manufacturer URL; ComponentLink1URL: http://www.linear.com/; ComponentLink2Description: Datasheet; ComponentLink2URL: http://cds.linear.com/docs/en/datasheet/620234fd.pdf; ComponentLink3Description: Package Specification; ComponentLink3URL: http://cds.linear.com/docs/en/packaging/05081610_G_S14.pdf
footprint LT-S-14_N (SOIC, 14-Leads, Body 8.65x3.90mm, Pitch 1.27mm, IPC Medium Density)
footprint LT-S-14_L (SOIC, 14-Leads, Body 8.65x3.90mm, Pitch 1.27mm, IPC High Density)
footprint LT-S-14_M (SOIC, 14-Leads, Body 8.65x3.90mm, Pitch 1.27mm, IPC Low Density)
pins on every part: 4 V+ (power), 11 V- (power)
part A pins: 1 OUT A (out), 2 -IN A (in), 3 +IN A (in)
part B pins: 5 +IN B (in), 6 -IN B (in), 7 OUT B (out)
part C pins: 8 OUT C (out), 9 -IN C (in), 10 +IN C (in)
part D pins: 12 +IN D (in), 13 -IN D (in), 14 OUT D (out)

## LT6205CS5
designator U?
Single Channel, Single Supply Video Operational Aplifier, 100 MHz Typical GBW, 600 V/us Typical SR, 3 to 12.6 V, 5-Pin SOT23 (S5-5), Commercial; Linear Technology Part Number: LT6205; Manufacturer: Linear Technology; PartNumber: LT6205CS5; Channels (#): 1; GBW (MHz) Typical: 100; Is (mA) Typical: 4; SR (V/us) Typical: 600; Vos (mV) Guaranteed: 4.5; Vos (mV) Typical: 1.3; Vs Max (V): 12.6; Vs Min (V): 3; DatasheetVersion: Rev. C; PackageReference: LT-S5-5-TSOT-23; PackageDescription: 5-Lead Plastic TSOT-23, Body 1.63 x 2.90 mm, Pitch 0.95 mm; Type: VFB; Mounting Technology: Surface Mount; Code_JEDEC: MO-193; ComponentLink1Description: Manufacturer URL; ComponentLink1URL: http://www.linear.com/; ComponentLink2Description: Datasheet; ComponentLink2URL: http://cds.linear.com/docs/en/datasheet/620567fc.pdf; ComponentLink3Description: Package Specification; ComponentLink3URL: http://cds.linear.com/docs/en/packaging/SOT_5_05-08-1635.pdf
footprint LT-S5-5-TSOT-23_N (SOT23, 5-Leads, Body 2.90x1.63mm, Pitch 0.95mm, IPC Medium Density)
footprint LT-S5-5-TSOT-23_L (SOT23, 5-Leads, Body 2.90x1.63mm, Pitch 0.95mm, IPC High Density)
footprint LT-S5-5-TSOT-23_M (SOT23, 5-Leads, Body 2.90x1.63mm, Pitch 0.95mm, IPC Low Density)
pins: 1 OUT (out) "Output.", 2 V- (power) "Negative Supply Voltage, Usually -5V.", 3 +IN (in) "Noninverting Input.", 4 -IN (in) "Inverting Input.", 5 V+ (power) "Positive Supply Voltage, Usually 5V."

## LT6205CS5#PBF
designator U?
Single Channel, Single Supply Video Operational Aplifier, 100 MHz Typical GBW, 600 V/us Typical SR, 3 to 12.6 V, 5-Pin SOT23 (S5-5), Commercial, Pb-Free; Linear Technology Part Number: LT6205; Manufacturer: Linear Technology; PartNumber: LT6205CS5#PBF; Channels (#): 1; GBW (MHz) Typical: 100; Is (mA) Typical: 4; SR (V/us) Typical: 600; Vos (mV) Guaranteed: 4.5; Vos (mV) Typical: 1.3; Vs Max (V): 12.6; Vs Min (V): 3; DatasheetVersion: Rev. C; PackageReference: LT-S5-5-TSOT-23; PackageDescription: 5-Lead Plastic TSOT-23, Body 1.63 x 2.90 mm, Pitch 0.95 mm; Supplier 1: Newark; Supplier Part Number 1: 78T4171; RoHS: Pb-Free; Type: VFB; Mounting Technology: Surface Mount; Code_JEDEC: MO-193; ComponentLink1Description: Manufacturer URL; ComponentLink1URL: http://www.linear.com/; ComponentLink2Description: Datasheet; ComponentLink2URL: http://cds.linear.com/docs/en/datasheet/620567fc.pdf; ComponentLink3Description: Package Specification; ComponentLink3URL: http://cds.linear.com/docs/en/packaging/SOT_5_05-08-1635.pdf
footprint LT-S5-5-TSOT-23_N (SOT23, 5-Leads, Body 2.90x1.63mm, Pitch 0.95mm, IPC Medium Density)
footprint LT-S5-5-TSOT-23_L (SOT23, 5-Leads, Body 2.90x1.63mm, Pitch 0.95mm, IPC High Density)
footprint LT-S5-5-TSOT-23_M (SOT23, 5-Leads, Body 2.90x1.63mm, Pitch 0.95mm, IPC Low Density)
pins: 1 OUT (out) "Output.", 2 V- (power) "Negative Supply Voltage, Usually -5V.", 3 +IN (in) "Noninverting Input.", 4 -IN (in) "Inverting Input.", 5 V+ (power) "Positive Supply Voltage, Usually 5V."

## LT6205CS5#TR
designator U?
Single Channel, Single Supply Video Operational Aplifier, 100 MHz Typical GBW, 600 V/us Typical SR, 3 to 12.6 V, 5-Pin SOT23 (S5-5), Commercial, Reel; Linear Technology Part Number: LT6205; Manufacturer: Linear Technology; PartNumber: LT6205CS5#TR; Channels (#): 1; GBW (MHz) Typical: 100; Is (mA) Typical: 4; SR (V/us) Typical: 600; Vos (mV) Guaranteed: 4.5; Vos (mV) Typical: 1.3; Vs Max (V): 12.6; Vs Min (V): 3; DatasheetVersion: Rev. C; PackageReference: LT-S5-5-TSOT-23; PackageDescription: 5-Lead Plastic TSOT-23, Body 1.63 x 2.90 mm, Pitch 0.95 mm; Supplier 1: Digi-Key; Supplier Part Number 1: LT6205CS5#TR-ND; Packing: Reel; Type: VFB; Mounting Technology: Surface Mount; Code_JEDEC: MO-193; ComponentLink1Description: Manufacturer URL; ComponentLink1URL: http://www.linear.com/; ComponentLink2Description: Datasheet; ComponentLink2URL: http://cds.linear.com/docs/en/datasheet/620567fc.pdf; ComponentLink3Description: Package Specification; ComponentLink3URL: http://cds.linear.com/docs/en/packaging/SOT_5_05-08-1635.pdf
footprint LT-S5-5-TSOT-23_N (SOT23, 5-Leads, Body 2.90x1.63mm, Pitch 0.95mm, IPC Medium Density)
footprint LT-S5-5-TSOT-23_L (SOT23, 5-Leads, Body 2.90x1.63mm, Pitch 0.95mm, IPC High Density)
footprint LT-S5-5-TSOT-23_M (SOT23, 5-Leads, Body 2.90x1.63mm, Pitch 0.95mm, IPC Low Density)
pins: 1 OUT (out) "Output.", 2 V- (power) "Negative Supply Voltage, Usually -5V.", 3 +IN (in) "Noninverting Input.", 4 -IN (in) "Inverting Input.", 5 V+ (power) "Positive Supply Voltage, Usually 5V."

## LT6205CS5#TRM
designator U?
Single Channel, Single Supply Video Operational Aplifier, 100 MHz Typical GBW, 600 V/us Typical SR, 3 to 12.6 V, 5-Pin SOT23 (S5-5), Commercial, Mini Reel; Linear Technology Part Number: LT6205; Manufacturer: Linear Technology; PartNumber: LT6205CS5#TRM; Channels (#): 1; GBW (MHz) Typical: 100; Is (mA) Typical: 4; SR (V/us) Typical: 600; Vos (mV) Guaranteed: 4.5; Vos (mV) Typical: 1.3; Vs Max (V): 12.6; Vs Min (V): 3; DatasheetVersion: Rev. C; PackageReference: LT-S5-5-TSOT-23; PackageDescription: 5-Lead Plastic TSOT-23, Body 1.63 x 2.90 mm, Pitch 0.95 mm; Supplier 1: Digi-Key; Supplier Part Number 1: LT6205CS5#TRM-ND; Packing: Mini Reel; Type: VFB; Mounting Technology: Surface Mount; Code_JEDEC: MO-193; ComponentLink1Description: Manufacturer URL; ComponentLink1URL: http://www.linear.com/; ComponentLink2Description: Datasheet; ComponentLink2URL: http://cds.linear.com/docs/en/datasheet/620567fc.pdf; ComponentLink3Description: Package Specification; ComponentLink3URL: http://cds.linear.com/docs/en/packaging/SOT_5_05-08-1635.pdf
footprint LT-S5-5-TSOT-23_N (SOT23, 5-Leads, Body 2.90x1.63mm, Pitch 0.95mm, IPC Medium Density)
footprint LT-S5-5-TSOT-23_L (SOT23, 5-Leads, Body 2.90x1.63mm, Pitch 0.95mm, IPC High Density)
footprint LT-S5-5-TSOT-23_M (SOT23, 5-Leads, Body 2.90x1.63mm, Pitch 0.95mm, IPC Low Density)
pins: 1 OUT (out) "Output.", 2 V- (power) "Negative Supply Voltage, Usually -5V.", 3 +IN (in) "Noninverting Input.", 4 -IN (in) "Inverting Input.", 5 V+ (power) "Positive Supply Voltage, Usually 5V."

## LT6205CS5#TRMPBF
designator U?
Single Channel, Single Supply Video Operational Aplifier, 100 MHz Typical GBW, 600 V/us Typical SR, 3 to 12.6 V, 5-Pin SOT23 (S5-5), Commercial, Pb-Free, Mini Reel; Linear Technology Part Number: LT6205; Manufacturer: Linear Technology; PartNumber: LT6205CS5#TRMPBF; Channels (#): 1; GBW (MHz) Typical: 100; Is (mA) Typical: 4; SR (V/us) Typical: 600; Vos (mV) Guaranteed: 4.5; Vos (mV) Typical: 1.3; Vs Max (V): 12.6; Vs Min (V): 3; DatasheetVersion: Rev. C; PackageReference: LT-S5-5-TSOT-23; PackageDescription: 5-Lead Plastic TSOT-23, Body 1.63 x 2.90 mm, Pitch 0.95 mm; Supplier 1: Digi-Key; Supplier Part Number 1: LT6205CS5#TRMPBF-ND; Packing: Mini Reel; RoHS: Pb-Free; Type: VFB; Mounting Technology: Surface Mount; Code_JEDEC: MO-193; ComponentLink1Description: Manufacturer URL; ComponentLink1URL: http://www.linear.com/; ComponentLink2Description: Datasheet; ComponentLink2URL: http://cds.linear.com/docs/en/datasheet/620567fc.pdf; ComponentLink3Description: Package Specification; ComponentLink3URL: http://cds.linear.com/docs/en/packaging/SOT_5_05-08-1635.pdf
footprint LT-S5-5-TSOT-23_N (SOT23, 5-Leads, Body 2.90x1.63mm, Pitch 0.95mm, IPC Medium Density)
footprint LT-S5-5-TSOT-23_L (SOT23, 5-Leads, Body 2.90x1.63mm, Pitch 0.95mm, IPC High Density)
footprint LT-S5-5-TSOT-23_M (SOT23, 5-Leads, Body 2.90x1.63mm, Pitch 0.95mm, IPC Low Density)
pins: 1 OUT (out) "Output.", 2 V- (power) "Negative Supply Voltage, Usually -5V.", 3 +IN (in) "Noninverting Input.", 4 -IN (in) "Inverting Input.", 5 V+ (power) "Positive Supply Voltage, Usually 5V."

## LT6205CS5#TRPBF
designator U?
Single Channel, Single Supply Video Operational Aplifier, 100 MHz Typical GBW, 600 V/us Typical SR, 3 to 12.6 V, 5-Pin SOT23 (S5-5), Commercial, Pb-Free, Reel; Linear Technology Part Number: LT6205; Manufacturer: Linear Technology; PartNumber: LT6205CS5#TRPBF; Channels (#): 1; GBW (MHz) Typical: 100; Is (mA) Typical: 4; SR (V/us) Typical: 600; Vos (mV) Guaranteed: 4.5; Vos (mV) Typical: 1.3; Vs Max (V): 12.6; Vs Min (V): 3; DatasheetVersion: Rev. C; PackageReference: LT-S5-5-TSOT-23; PackageDescription: 5-Lead Plastic TSOT-23, Body 1.63 x 2.90 mm, Pitch 0.95 mm; Supplier 1: Digi-Key; Supplier Part Number 1: LT6205CS5#TRPBF-ND; Supplier 2: Newark; Supplier Part Number 2: 57M9259; Packing: Reel; RoHS: Pb-Free; Type: VFB; Mounting Technology: Surface Mount; Code_JEDEC: MO-193; ComponentLink1Description: Manufacturer URL; ComponentLink1URL: http://www.linear.com/; ComponentLink2Description: Datasheet; ComponentLink2URL: http://cds.linear.com/docs/en/datasheet/620567fc.pdf; ComponentLink3Description: Package Specification; ComponentLink3URL: http://cds.linear.com/docs/en/packaging/SOT_5_05-08-1635.pdf
footprint LT-S5-5-TSOT-23_N (SOT23, 5-Leads, Body 2.90x1.63mm, Pitch 0.95mm, IPC Medium Density)
footprint LT-S5-5-TSOT-23_L (SOT23, 5-Leads, Body 2.90x1.63mm, Pitch 0.95mm, IPC High Density)
footprint LT-S5-5-TSOT-23_M (SOT23, 5-Leads, Body 2.90x1.63mm, Pitch 0.95mm, IPC Low Density)
pins: 1 OUT (out) "Output.", 2 V- (power) "Negative Supply Voltage, Usually -5V.", 3 +IN (in) "Noninverting Input.", 4 -IN (in) "Inverting Input.", 5 V+ (power) "Positive Supply Voltage, Usually 5V."

## LT6205HS5#PBF
designator U?
Single Channel, Single Supply Video Operational Aplifier, 100 MHz Typical GBW, 600 V/us Typical SR, 3 to 12.6 V, 5-Pin SOT23 (S5-5), High Temperature / Automotive, Pb-Free; Linear Technology Part Number: LT6205; Manufacturer: Linear Technology; PartNumber: LT6205HS5#PBF; Channels (#): 1; GBW (MHz) Typical: 100; Is (mA) Typical: 4; SR (V/us) Typical: 600; Vos (mV) Guaranteed: 4.5; Vos (mV) Typical: 1.3; Vs Max (V): 12.6; Vs Min (V): 3; DatasheetVersion: Rev. C; PackageReference: LT-S5-5-TSOT-23; PackageDescription: 5-Lead Plastic TSOT-23, Body 1.63 x 2.90 mm, Pitch 0.95 mm; RoHS: Pb-Free; Type: VFB; Mounting Technology: Surface Mount; Code_JEDEC: MO-193; ComponentLink1Description: Manufacturer URL; ComponentLink1URL: http://www.linear.com/; ComponentLink2Description: Datasheet; ComponentLink2URL: http://cds.linear.com/docs/en/datasheet/620567fc.pdf; ComponentLink3Description: Package Specification; ComponentLink3URL: http://cds.linear.com/docs/en/packaging/SOT_5_05-08-1635.pdf
footprint LT-S5-5-TSOT-23_N (SOT23, 5-Leads, Body 2.90x1.63mm, Pitch 0.95mm, IPC Medium Density)
footprint LT-S5-5-TSOT-23_L (SOT23, 5-Leads, Body 2.90x1.63mm, Pitch 0.95mm, IPC High Density)
footprint LT-S5-5-TSOT-23_M (SOT23, 5-Leads, Body 2.90x1.63mm, Pitch 0.95mm, IPC Low Density)
pins: 1 OUT (out) "Output.", 2 V- (power) "Negative Supply Voltage, Usually -5V.", 3 +IN (in) "Noninverting Input.", 4 -IN (in) "Inverting Input.", 5 V+ (power) "Positive Supply Voltage, Usually 5V."

## LT6205HS5#TRMPBF
designator U?
Single Channel, Single Supply Video Operational Aplifier, 100 MHz Typical GBW, 600 V/us Typical SR, 3 to 12.6 V, 5-Pin SOT23 (S5-5), High Temperature / Automotive, Pb-Free, Mini Reel; Linear Technology Part Number: LT6205; Manufacturer: Linear Technology; PartNumber: LT6205HS5#TRMPBF; Channels (#): 1; GBW (MHz) Typical: 100; Is (mA) Typical: 4; SR (V/us) Typical: 600; Vos (mV) Guaranteed: 4.5; Vos (mV) Typical: 1.3; Vs Max (V): 12.6; Vs Min (V): 3; DatasheetVersion: Rev. C; PackageReference: LT-S5-5-TSOT-23; PackageDescription: 5-Lead Plastic TSOT-23, Body 1.63 x 2.90 mm, Pitch 0.95 mm; Supplier 1: Digi-Key; Supplier Part Number 1: LT6205HS5#TRMPBF-ND; Packing: Mini Reel; RoHS: Pb-Free; Type: VFB; Mounting Technology: Surface Mount; Code_JEDEC: MO-193; ComponentLink1Description: Manufacturer URL; ComponentLink1URL: http://www.linear.com/; ComponentLink2Description: Datasheet; ComponentLink2URL: http://cds.linear.com/docs/en/datasheet/620567fc.pdf; ComponentLink3Description: Package Specification; ComponentLink3URL: http://cds.linear.com/docs/en/packaging/SOT_5_05-08-1635.pdf
footprint LT-S5-5-TSOT-23_N (SOT23, 5-Leads, Body 2.90x1.63mm, Pitch 0.95mm, IPC Medium Density)
footprint LT-S5-5-TSOT-23_L (SOT23, 5-Leads, Body 2.90x1.63mm, Pitch 0.95mm, IPC High Density)
footprint LT-S5-5-TSOT-23_M (SOT23, 5-Leads, Body 2.90x1.63mm, Pitch 0.95mm, IPC Low Density)
pins: 1 OUT (out) "Output.", 2 V- (power) "Negative Supply Voltage, Usually -5V.", 3 +IN (in) "Noninverting Input.", 4 -IN (in) "Inverting Input.", 5 V+ (power) "Positive Supply Voltage, Usually 5V."

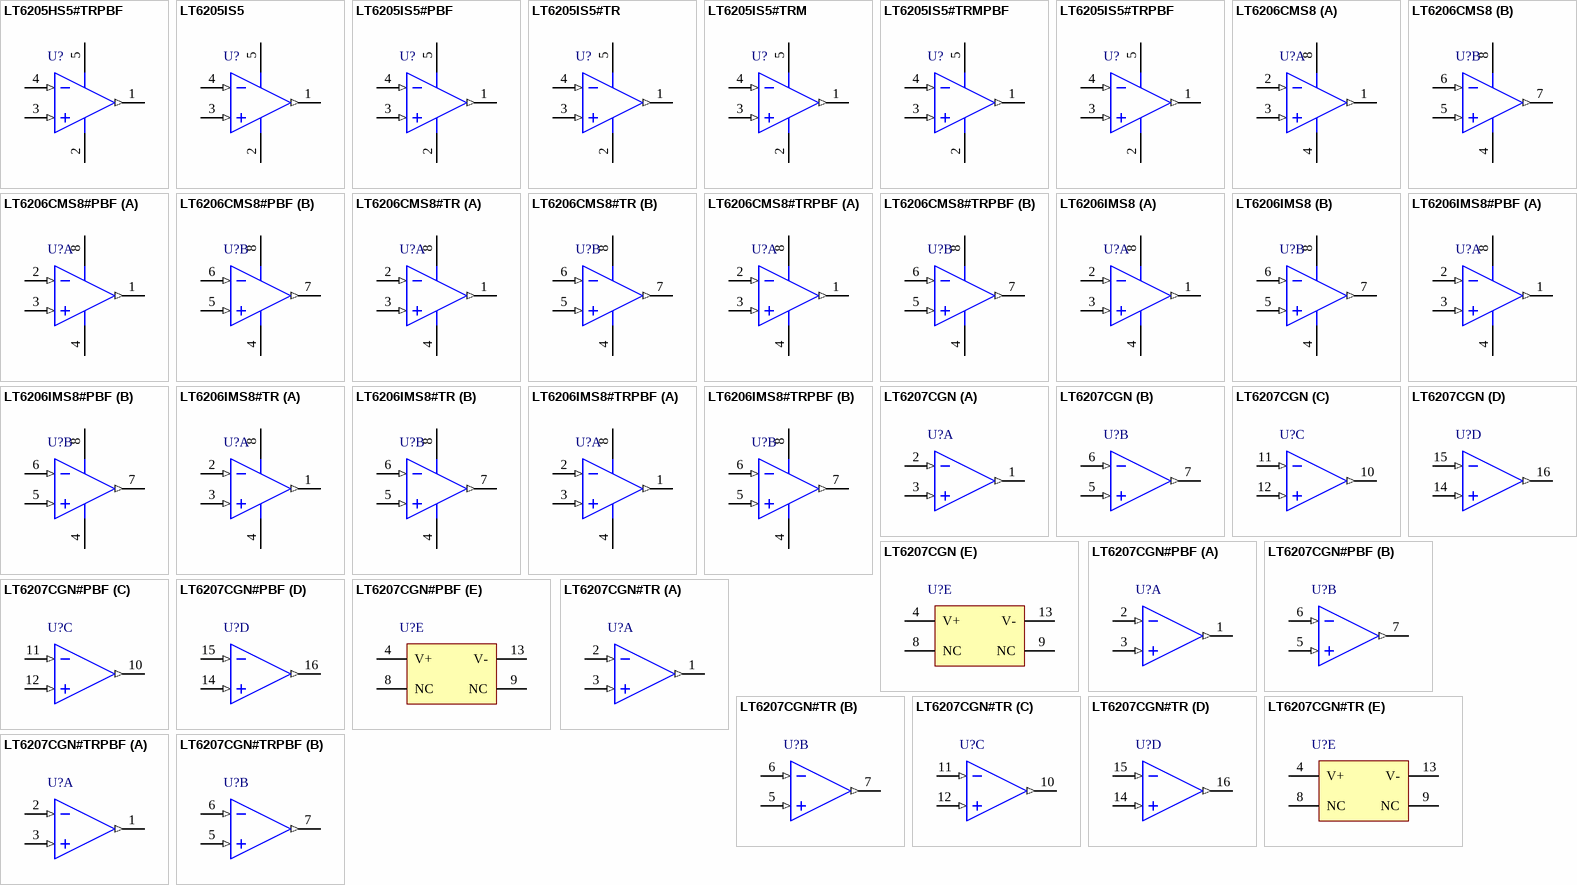
[diagram p22: symbols LT6205HS5#TRPBF to LT6207CGN#TRPBF]

## LT6205HS5#TRPBF
designator U?
Single Channel, Single Supply Video Operational Aplifier, 100 MHz Typical GBW, 600 V/us Typical SR, 3 to 12.6 V, 5-Pin SOT23 (S5-5), High Temperature / Automotive, Pb-Free, Reel; Linear Technology Part Number: LT6205; Manufacturer: Linear Technology; PartNumber: LT6205HS5#TRPBF; Channels (#): 1; GBW (MHz) Typical: 100; Is (mA) Typical: 4; SR (V/us) Typical: 600; Vos (mV) Guaranteed: 4.5; Vos (mV) Typical: 1.3; Vs Max (V): 12.6; Vs Min (V): 3; DatasheetVersion: Rev. C; PackageReference: LT-S5-5-TSOT-23; PackageDescription: 5-Lead Plastic TSOT-23, Body 1.63 x 2.90 mm, Pitch 0.95 mm; Supplier 1: Digi-Key; Supplier Part Number 1: LT6205HS5#TRPBF-ND; Packing: Reel; RoHS: Pb-Free; Type: VFB; Mounting Technology: Surface Mount; Code_JEDEC: MO-193; ComponentLink1Description: Manufacturer URL; ComponentLink1URL: http://www.linear.com/; ComponentLink2Description: Datasheet; ComponentLink2URL: http://cds.linear.com/docs/en/datasheet/620567fc.pdf; ComponentLink3Description: Package Specification; ComponentLink3URL: http://cds.linear.com/docs/en/packaging/SOT_5_05-08-1635.pdf
footprint LT-S5-5-TSOT-23_N (SOT23, 5-Leads, Body 2.90x1.63mm, Pitch 0.95mm, IPC Medium Density)
footprint LT-S5-5-TSOT-23_L (SOT23, 5-Leads, Body 2.90x1.63mm, Pitch 0.95mm, IPC High Density)
footprint LT-S5-5-TSOT-23_M (SOT23, 5-Leads, Body 2.90x1.63mm, Pitch 0.95mm, IPC Low Density)
pins: 1 OUT (out) "Output.", 2 V- (power) "Negative Supply Voltage, Usually -5V.", 3 +IN (in) "Noninverting Input.", 4 -IN (in) "Inverting Input.", 5 V+ (power) "Positive Supply Voltage, Usually 5V."

## LT6205IS5
designator U?
Single Channel, Single Supply Video Operational Aplifier, 100 MHz Typical GBW, 600 V/us Typical SR, 3 to 12.6 V, 5-Pin SOT23 (S5-5), Industrial; Linear Technology Part Number: LT6205; Manufacturer: Linear Technology; PartNumber: LT6205IS5; Channels (#): 1; GBW (MHz) Typical: 100; Is (mA) Typical: 4; SR (V/us) Typical: 600; Vos (mV) Guaranteed: 4.5; Vos (mV) Typical: 1.3; Vs Max (V): 12.6; Vs Min (V): 3; DatasheetVersion: Rev. C; PackageReference: LT-S5-5-TSOT-23; PackageDescription: 5-Lead Plastic TSOT-23, Body 1.63 x 2.90 mm, Pitch 0.95 mm; Type: VFB; Mounting Technology: Surface Mount; Code_JEDEC: MO-193; ComponentLink1Description: Manufacturer URL; ComponentLink1URL: http://www.linear.com/; ComponentLink2Description: Datasheet; ComponentLink2URL: http://cds.linear.com/docs/en/datasheet/620567fc.pdf; ComponentLink3Description: Package Specification; ComponentLink3URL: http://cds.linear.com/docs/en/packaging/SOT_5_05-08-1635.pdf
footprint LT-S5-5-TSOT-23_N (SOT23, 5-Leads, Body 2.90x1.63mm, Pitch 0.95mm, IPC Medium Density)
footprint LT-S5-5-TSOT-23_L (SOT23, 5-Leads, Body 2.90x1.63mm, Pitch 0.95mm, IPC High Density)
footprint LT-S5-5-TSOT-23_M (SOT23, 5-Leads, Body 2.90x1.63mm, Pitch 0.95mm, IPC Low Density)
pins: 1 OUT (out) "Output.", 2 V- (power) "Negative Supply Voltage, Usually -5V.", 3 +IN (in) "Noninverting Input.", 4 -IN (in) "Inverting Input.", 5 V+ (power) "Positive Supply Voltage, Usually 5V."